# EAGLE library part MCP73826 (library Batt Charger)
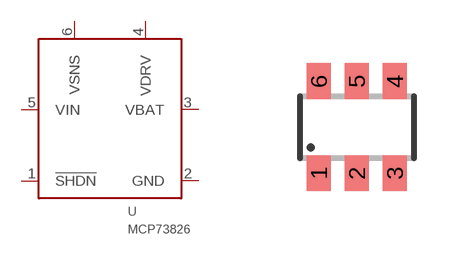
[diagram p0: symbol with the pads of SOT23-6; footprint SOT23-6]

Designator prefix U

## MCP73826  [SOT23-6]
1  !SHDN
2  GND
3  VBAT
4  VDRV
5  VIN
6  VSNS

## Footprint SOT23-6 (pad centres in mm)
SOT23 6pin
smd 0.6 x 0.9: 1 -0.95,-1.15; 2 0,-1.15; 3 0.95,-1.15; 4 0.95,1.15; 5 0,1.15; 6 -0.95,1.15